# EAGLE library part MAX868 (library my_ic)
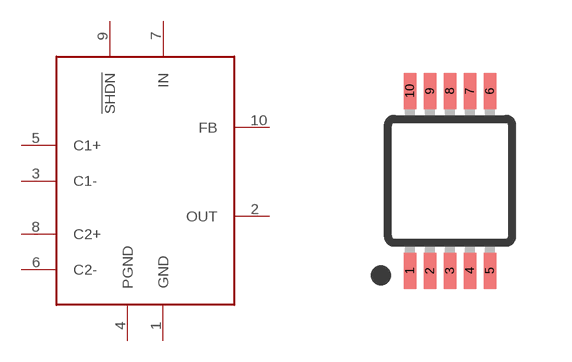
[diagram p38: symbol with the pads of UMAX_10PIN; footprint UMAX_10PIN]

Designator prefix -

## MAX868  [UMAX_10PIN]
1  GND
2  OUT
3  C1-
4  PGND
5  C1+
6  C2-
7  IN
8  C2+
9  !SHDN
10  FB

## Footprint UMAX_10PIN (pad centres in mm)
smd 0.32 x 0.9: 1 -1,-2.25; 2 -0.5,-2.25; 3 0,-2.25; 4 0.5,-2.25; 5 1,-2.25; 6 1,2.25; 7 0.5,2.25; 8 0,2.25; 9 -0.5,2.25; 10 -1,2.25